# Altium integrated library ADGS2414DBCCZ.IntLib: 1 symbol
Pins are listed as number, name and electrical type; pins without a type are passive.

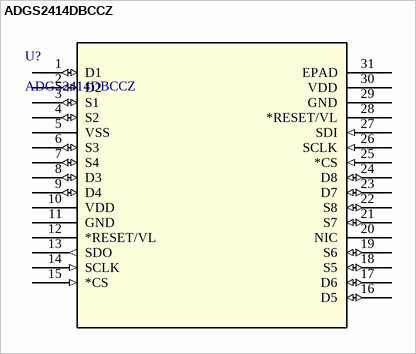
[diagram p0: symbol ADGS2414DBCCZ]

## ADGS2414DBCCZ
designator U?
0.56 Î© On Resistance High Density Octal SPST Switch; Manufacturer_Name: Analog Devices Inc; Copyright: Copyright (C) 2025 Ultra Librarian. All rights reserved.; Manufacturer_Part_Number: ADGS2414DBCCZ; RefDes: RefDes; Type: Type
footprint CC-30-3_ADI
pins: 1 D1 (io), 2 D2 (io), 3 S1 (io), 4 S2 (io), 5 VSS (power), 6 S3 (io), 7 S4 (io), 8 D3 (io), 9 D4 (io), 10 VDD (power), 11 GND (power), 12 *RESET/VL (power), 13 SDO (out), 14 SCLK (in), 15 *CS (in), 16 D5 (io), 17 D6 (io), 18 S5 (io), 19 S6 (io), 20 NIC, 21 S7 (io), 22 S8 (io), 23 D7 (io), 24 D8 (io), 25 *CS (in), 26 SCLK (in), 27 SDI (in), 28 *RESET/VL (power), 29 GND (power), 30 VDD (power), 31 EPAD (power)